# Altium integrated library TI_Logic_Flip-Flop,Latch,Register.IntLib: 2598 symbols (part 20 of 122)
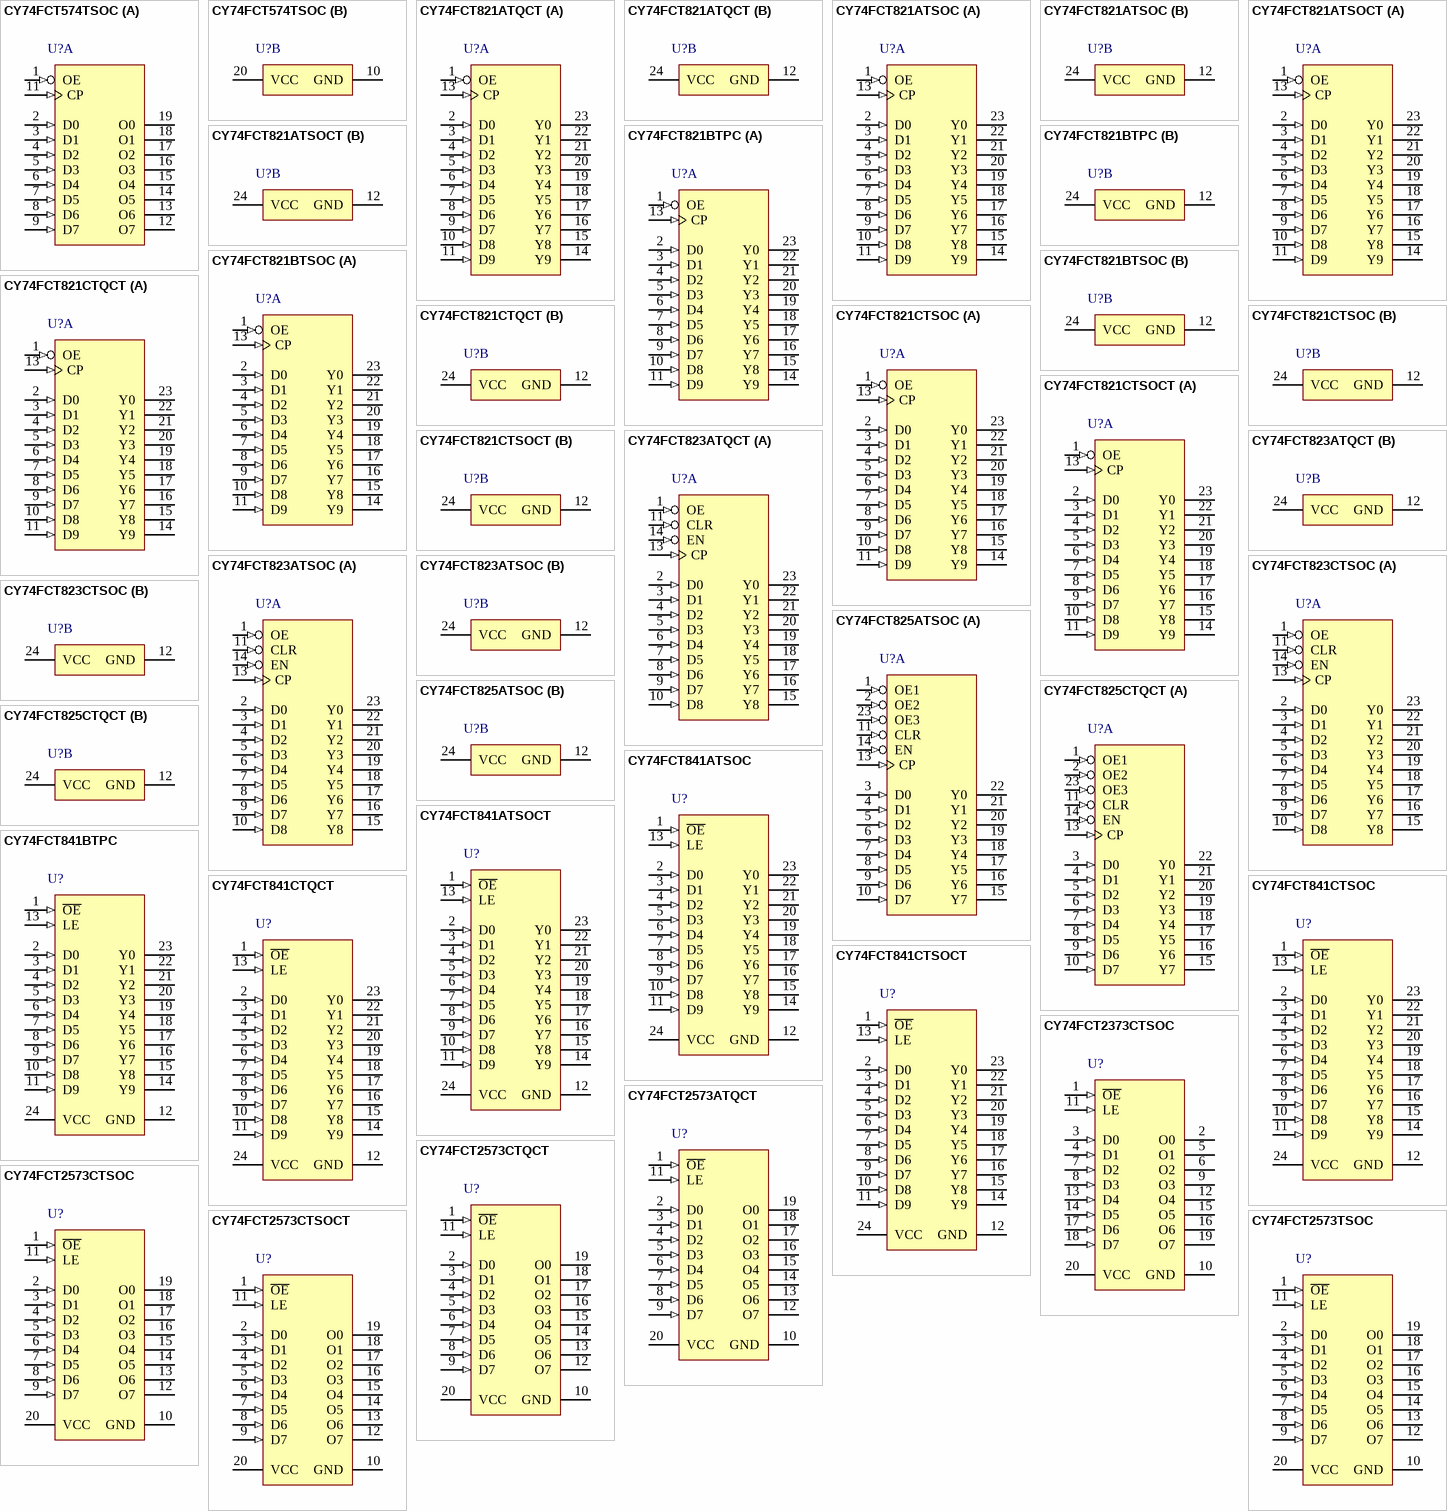
[diagram p158: symbols CY74FCT574TSOC to CY74FCT2573TSOC]

## CY74FCT2573TSOC
designator U?
Octal D-Type Transparent Latches with 3-State Outputs and Series Damping Resistors, DW0020A, TUBE; Generic Part Number: CY74FCT2573T; Manufacturer: Texas Instruments; PartNumber: CY74FCT2573TSOC; VCC(Min)(V): 4.75; VCC(Max)(V): 5.25; Output Type: CMOS; ICC @ Nom Voltage(Max)(mA): 0.2; Input Type: TTL; Bits(#): 8; F @ Nom Voltage(Max)(Mhz): 70; Rating: Catalog; Technology Family: FCT; Voltage(Nom)(V): 5; Schmitt Trigger: No; Output Drive (IOL/IOH)(Max)(mA): 12/-15; Output Logic: Non-inverted; 3-State Output: Yes; DatasheetVersion: SCCS075; PackageReference: DW0020A; Supplier 1: Digi-Key; Supplier Part Number 1: 296-33225-5-ND; Supplier 2: Mouser; Supplier Part Number 2: 595-CY74FCT2573TSOC; Operating Temperature Range(C): -40 to 85; tpd @ Nom Voltage(Max)(ns): 8; Code_JEDEC: MS-013; ComponentLink1Description: Manufacturer URL; ComponentLink1URL: http://www.ti.com/; ComponentLink2Description: Datasheet; ComponentLink2URL: http://www.ti.com/lit/ds/symlink/cy74fct2573t.pdf; ComponentLink3Description: Package Specification; ComponentLink3URL: http://www.ti.com/lit/ml/mpds173a/mpds173a.pdf
footprint DW0020A_N (SOIC, 20-Leads, Body 13x7.6mm, Pitch 1.27mm, IPC Medium Density)
footprint DW0020A_M (SOIC, 20-Leads, Body 13x7.6mm, Pitch 1.27mm, IPC Low Density)
footprint DW0020A_L (SOIC, 20-Leads, Body 13x7.6mm, Pitch 1.27mm, IPC High Density)
pins: 1 ~{OE} (in), 2 D0 (in), 3 D1 (in), 4 D2 (in), 5 D3 (in), 6 D4 (in), 7 D5 (in), 8 D6 (in), 9 D7 (in), 10 GND (power), 11 LE (in), 12 O7 (hiz), 13 O6 (hiz), 14 O5 (hiz), 15 O4 (hiz), 16 O3 (hiz), 17 O2 (hiz), 18 O1 (hiz), 19 O0 (hiz), 20 VCC (power)

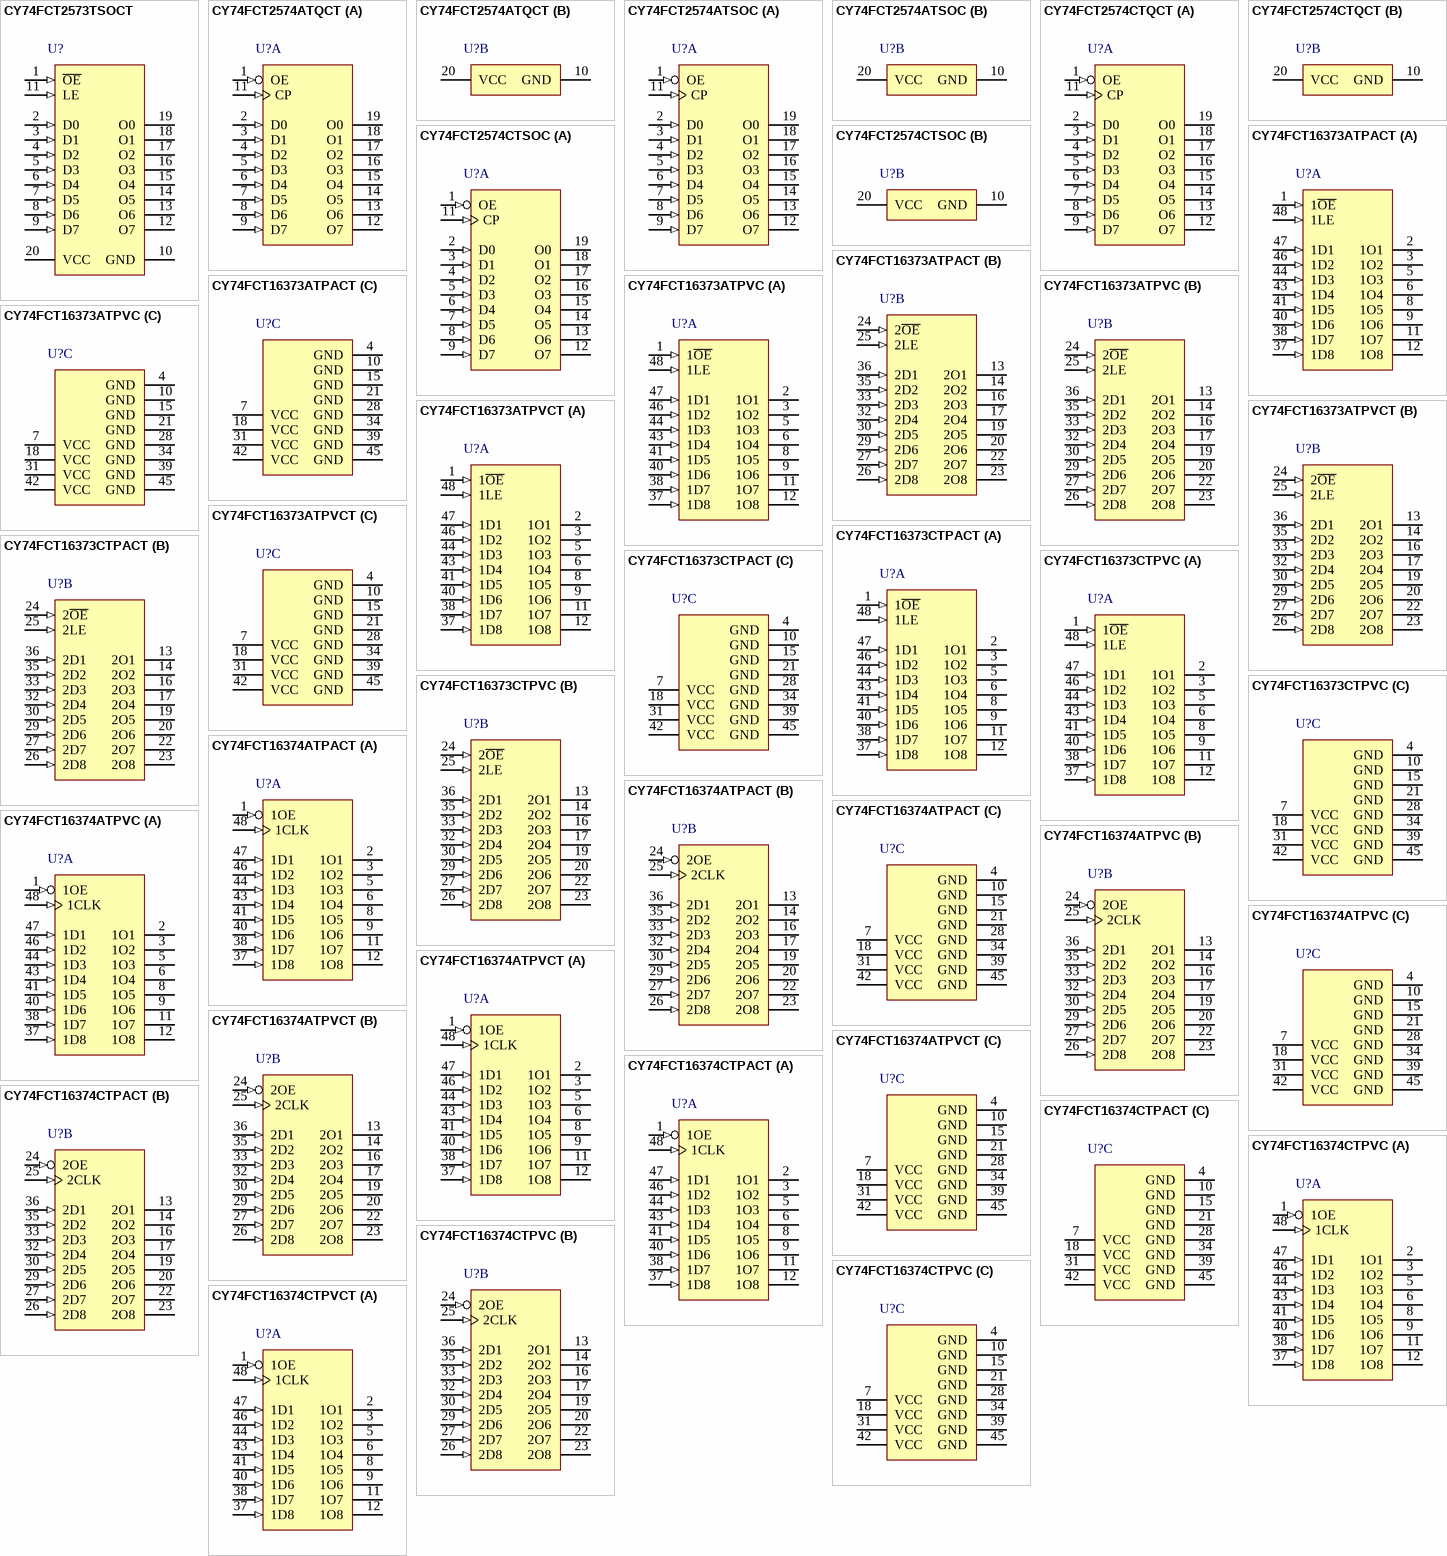
[diagram p27: symbols CY74FCT2573TSOCT to CY74FCT16374CTPVCT]

## CY74FCT2573TSOCT
designator U?
Octal D-Type Transparent Latches with 3-State Outputs and Series Damping Resistors, DW0020A, LARGE T&R; Generic Part Number: CY74FCT2573T; Manufacturer: Texas Instruments; PartNumber: CY74FCT2573TSOCT; VCC(Min)(V): 4.75; VCC(Max)(V): 5.25; Output Type: CMOS; ICC @ Nom Voltage(Max)(mA): 0.2; Input Type: TTL; Bits(#): 8; F @ Nom Voltage(Max)(Mhz): 70; Rating: Catalog; Technology Family: FCT; Voltage(Nom)(V): 5; Schmitt Trigger: No; Output Drive (IOL/IOH)(Max)(mA): 12/-15; Output Logic: Non-inverted; 3-State Output: Yes; DatasheetVersion: SCCS075; PackageReference: DW0020A; Supplier 1: Digi-Key; Supplier Part Number 1: 296-28795-2-ND; Supplier 2: Digi-Key; Supplier Part Number 2: 296-28795-1-ND; Supplier 3: Digi-Key; Supplier Part Number 3: 296-28795-6-ND; Supplier 4: Mouser; Supplier Part Number 4: 595-CY74FCT2573TSOCT; Operating Temperature Range(C): -40 to 85; tpd @ Nom Voltage(Max)(ns): 8; Code_JEDEC: MS-013; ComponentLink1Description: Manufacturer URL; ComponentLink1URL: http://www.ti.com/; ComponentLink2Description: Datasheet; ComponentLink2URL: http://www.ti.com/lit/ds/symlink/cy74fct2573t.pdf; ComponentLink3Description: Package Specification; ComponentLink3URL: http://www.ti.com/lit/ml/mpds173a/mpds173a.pdf
footprint DW0020A_N (SOIC, 20-Leads, Body 13x7.6mm, Pitch 1.27mm, IPC Medium Density)
footprint DW0020A_M (SOIC, 20-Leads, Body 13x7.6mm, Pitch 1.27mm, IPC Low Density)
footprint DW0020A_L (SOIC, 20-Leads, Body 13x7.6mm, Pitch 1.27mm, IPC High Density)
pins: 1 ~{OE} (in), 2 D0 (in), 3 D1 (in), 4 D2 (in), 5 D3 (in), 6 D4 (in), 7 D5 (in), 8 D6 (in), 9 D7 (in), 10 GND (power), 11 LE (in), 12 O7 (hiz), 13 O6 (hiz), 14 O5 (hiz), 15 O4 (hiz), 16 O3 (hiz), 17 O2 (hiz), 18 O1 (hiz), 19 O0 (hiz), 20 VCC (power)

## CY74FCT2574ATQCT
designator U?
Octal D-Type Registers with 3-State Outputs and Series Damping Resistors, DBQ0020A, LARGE T&R; Generic Part Number: CY74FCT2574T; Manufacturer: Texas Instruments; PartNumber: CY74FCT2574ATQCT; VCC(Min)(V): 4.75; VCC(Max)(V): 5.25; Output Type: CMOS; ICC @ Nom Voltage(Max)(mA): 0.2; Input Type: TTL; Bits(#): 8; F @ Nom Voltage(Max)(Mhz): 70; Rating: Catalog; Technology Family: FCT; Voltage(Nom)(V): 5; Schmitt Trigger: No; Output Drive (IOL/IOH)(Max)(mA): 12/-15; tpd @ Nom Voltage(Max)(ns): 6.5; DatasheetVersion: SCCS076; PackageReference: DBQ0020A; Supplier 1: Digi-Key; Supplier Part Number 1: 296-13635-2-ND; Supplier 2: Digi-Key; Supplier Part Number 2: 296-13635-1-ND; Supplier 3: Digi-Key; Supplier Part Number 3: 296-13635-6-ND; Supplier 4: Mouser; Supplier Part Number 4: 595-CY74FCT2574ATQCT; Operating Temperature Range(C): -40 to 85; Code_JEDEC: MO-137; ComponentLink1Description: Manufacturer URL; ComponentLink1URL: http://www.ti.com/; ComponentLink2Description: Datasheet; ComponentLink2URL: http://www.ti.com/lit/ds/symlink/cy74fct2574t.pdf; ComponentLink3Description: Package Specification; ComponentLink3URL: http://www.ti.com/lit/ml/mpds210a/mpds210a.pdf
footprint DBQ0020A_N (SOP, 20-Leads, Body 8.8x4mm, Pitch 0.635mm, IPC Medium Density)
footprint DBQ0020A_M (SOP, 20-Leads, Body 8.8x4mm, Pitch 0.635mm, IPC Low Density)
footprint DBQ0020A_L (SOP, 20-Leads, Body 8.8x4mm, Pitch 0.635mm, IPC High Density)
part A pins: 1 OE (in), 2 D0 (in), 3 D1 (in), 4 D2 (in), 5 D3 (in), 6 D4 (in), 7 D5 (in), 8 D6 (in), 9 D7 (in), 11 CP (in), 12 O7 (hiz), 13 O6 (hiz), 14 O5 (hiz), 15 O4 (hiz), 16 O3 (hiz), 17 O2 (hiz), 18 O1 (hiz), 19 O0 (hiz)
part B pins: 10 GND (power), 20 VCC (power)

## CY74FCT2574ATSOC
designator U?
Octal D-Type Registers with 3-State Outputs and Series Damping Resistors, DW0020A, TUBE; Generic Part Number: CY74FCT2574T; Manufacturer: Texas Instruments; PartNumber: CY74FCT2574ATSOC; VCC(Min)(V): 4.75; VCC(Max)(V): 5.25; Output Type: CMOS; ICC @ Nom Voltage(Max)(mA): 0.2; Input Type: TTL; Bits(#): 8; F @ Nom Voltage(Max)(Mhz): 70; Rating: Catalog; Technology Family: FCT; Voltage(Nom)(V): 5; Schmitt Trigger: No; Output Drive (IOL/IOH)(Max)(mA): 12/-15; tpd @ Nom Voltage(Max)(ns): 6.5; DatasheetVersion: SCCS076; PackageReference: DW0020A; Supplier 1: Digi-Key; Supplier Part Number 1: CY74FCT2574ATSOC-ND; Supplier 2: Farnell; Supplier Part Number 2: 1741460; Supplier 3: Mouser; Supplier Part Number 3: 595-CY74FCT2574ATSOC; Operating Temperature Range(C): -40 to 85; Code_JEDEC: MS-013; ComponentLink1Description: Manufacturer URL; ComponentLink1URL: http://www.ti.com/; ComponentLink2Description: Datasheet; ComponentLink2URL: http://www.ti.com/lit/ds/symlink/cy74fct2574t.pdf; ComponentLink3Description: Package Specification; ComponentLink3URL: http://www.ti.com/lit/ml/mpds173a/mpds173a.pdf
footprint DW0020A_N (SOIC, 20-Leads, Body 13x7.6mm, Pitch 1.27mm, IPC Medium Density)
footprint DW0020A_M (SOIC, 20-Leads, Body 13x7.6mm, Pitch 1.27mm, IPC Low Density)
footprint DW0020A_L (SOIC, 20-Leads, Body 13x7.6mm, Pitch 1.27mm, IPC High Density)
part A pins: 1 OE (in), 2 D0 (in), 3 D1 (in), 4 D2 (in), 5 D3 (in), 6 D4 (in), 7 D5 (in), 8 D6 (in), 9 D7 (in), 11 CP (in), 12 O7 (hiz), 13 O6 (hiz), 14 O5 (hiz), 15 O4 (hiz), 16 O3 (hiz), 17 O2 (hiz), 18 O1 (hiz), 19 O0 (hiz)
part B pins: 10 GND (power), 20 VCC (power)

## CY74FCT2574CTQCT
designator U?
Octal D-Type Registers with 3-State Outputs and Series Damping Resistors, DBQ0020A, LARGE T&R; Generic Part Number: CY74FCT2574T; Manufacturer: Texas Instruments; PartNumber: CY74FCT2574CTQCT; VCC(Min)(V): 4.75; VCC(Max)(V): 5.25; Output Type: CMOS; ICC @ Nom Voltage(Max)(mA): 0.2; Input Type: TTL; Bits(#): 8; F @ Nom Voltage(Max)(Mhz): 70; Rating: Catalog; Technology Family: FCT; Voltage(Nom)(V): 5; Schmitt Trigger: No; Output Drive (IOL/IOH)(Max)(mA): 12/-15; tpd @ Nom Voltage(Max)(ns): 5.2; DatasheetVersion: SCCS076; PackageReference: DBQ0020A; Supplier 1: Digi-Key; Supplier Part Number 1: CY74FCT2574CTQCT-ND; Supplier 2: Mouser; Supplier Part Number 2: 595-CY74FCT2574CTQCT; Operating Temperature Range(C): -40 to 85; Code_JEDEC: MO-137; ComponentLink1Description: Manufacturer URL; ComponentLink1URL: http://www.ti.com/; ComponentLink2Description: Datasheet; ComponentLink2URL: http://www.ti.com/lit/ds/symlink/cy74fct2574t.pdf; ComponentLink3Description: Package Specification; ComponentLink3URL: http://www.ti.com/lit/ml/mpds210a/mpds210a.pdf
footprint DBQ0020A_N (SOP, 20-Leads, Body 8.8x4mm, Pitch 0.635mm, IPC Medium Density)
footprint DBQ0020A_M (SOP, 20-Leads, Body 8.8x4mm, Pitch 0.635mm, IPC Low Density)
footprint DBQ0020A_L (SOP, 20-Leads, Body 8.8x4mm, Pitch 0.635mm, IPC High Density)
part A pins: 1 OE (in), 2 D0 (in), 3 D1 (in), 4 D2 (in), 5 D3 (in), 6 D4 (in), 7 D5 (in), 8 D6 (in), 9 D7 (in), 11 CP (in), 12 O7 (hiz), 13 O6 (hiz), 14 O5 (hiz), 15 O4 (hiz), 16 O3 (hiz), 17 O2 (hiz), 18 O1 (hiz), 19 O0 (hiz)
part B pins: 10 GND (power), 20 VCC (power)

## CY74FCT2574CTSOC
designator U?
Octal D-Type Registers with 3-State Outputs and Series Damping Resistors, DW0020A, TUBE; Generic Part Number: CY74FCT2574T; Manufacturer: Texas Instruments; PartNumber: CY74FCT2574CTSOC; VCC(Min)(V): 4.75; VCC(Max)(V): 5.25; Output Type: CMOS; ICC @ Nom Voltage(Max)(mA): 0.2; Input Type: TTL; Bits(#): 8; F @ Nom Voltage(Max)(Mhz): 70; Rating: Catalog; Technology Family: FCT; Voltage(Nom)(V): 5; Schmitt Trigger: No; Output Drive (IOL/IOH)(Max)(mA): 12/-15; tpd @ Nom Voltage(Max)(ns): 5.2; DatasheetVersion: SCCS076; PackageReference: DW0020A; Supplier 1: Digi-Key; Supplier Part Number 1: 296-33226-5-ND; Supplier 2: Farnell; Supplier Part Number 2: 1741461; Supplier 3: Mouser; Supplier Part Number 3: 595-CY74FCT2574CTSOC; Operating Temperature Range(C): -40 to 85; Code_JEDEC: MS-013; ComponentLink1Description: Manufacturer URL; ComponentLink1URL: http://www.ti.com/; ComponentLink2Description: Datasheet; ComponentLink2URL: http://www.ti.com/lit/ds/symlink/cy74fct2574t.pdf; ComponentLink3Description: Package Specification; ComponentLink3URL: http://www.ti.com/lit/ml/mpds173a/mpds173a.pdf
footprint DW0020A_N (SOIC, 20-Leads, Body 13x7.6mm, Pitch 1.27mm, IPC Medium Density)
footprint DW0020A_M (SOIC, 20-Leads, Body 13x7.6mm, Pitch 1.27mm, IPC Low Density)
footprint DW0020A_L (SOIC, 20-Leads, Body 13x7.6mm, Pitch 1.27mm, IPC High Density)
part A pins: 1 OE (in), 2 D0 (in), 3 D1 (in), 4 D2 (in), 5 D3 (in), 6 D4 (in), 7 D5 (in), 8 D6 (in), 9 D7 (in), 11 CP (in), 12 O7 (hiz), 13 O6 (hiz), 14 O5 (hiz), 15 O4 (hiz), 16 O3 (hiz), 17 O2 (hiz), 18 O1 (hiz), 19 O0 (hiz)
part B pins: 10 GND (power), 20 VCC (power)

## CY74FCT16373ATPACT
designator U?
16-Bit Transparent D-Type Latches with 3-State Outputs, DGG0048A, LARGE T&R; Generic Part Number: CY74FCT16373T; Manufacturer: Texas Instruments; PartNumber: CY74FCT16373ATPACT; VCC(Min)(V): 4.5; VCC(Max)(V): 5.5; Output Type: CMOS; ICC @ Nom Voltage(Max)(mA): 0.5; Input Type: TTL; Bits(#): 16; F @ Nom Voltage(Max)(Mhz): 70; Rating: Catalog; Technology Family: FCT; Voltage(Nom)(V): 5; Schmitt Trigger: No; Output Drive (IOL/IOH)(Max)(mA): 64/-32; tpd @ Nom Voltage(Max)(ns): 5.2; DatasheetVersion: SCCS054C; PackageReference: DGG0048A; Supplier 1: Digi-Key; Supplier Part Number 1: 296-31628-2-ND; Supplier 2: Digi-Key; Supplier Part Number 2: 296-31628-1-ND; Supplier 3: Digi-Key; Supplier Part Number 3: 296-31628-6-ND; Supplier 4: Mouser; Supplier Part Number 4: 595-74FCT16373ATPACT; Operating Temperature Range(C): -40 to 85; Code_JEDEC: MO-153; ComponentLink1Description: Manufacturer URL; ComponentLink1URL: http://www.ti.com/; ComponentLink2Description: Datasheet; ComponentLink2URL: http://www.ti.com/lit/ds/symlink/cy74fct16373t.pdf; ComponentLink3Description: Package Specification; ComponentLink3URL: http://www.ti.com/lit/ml/mtss003d/mtss003d.pdf
footprint DGG0048A_N (TSSOP, 48-Leads, Body 12.6x6.2mm, Pitch 0.5mm, IPC Medium Density)
footprint DGG0048A_M (TSSOP, 48-Leads, Body 12.6x6.2mm, Pitch 0.5mm, IPC Low Density)
footprint DGG0048A_L (TSSOP, 48-Leads, Body 12.6x6.2mm, Pitch 0.5mm, IPC High Density)
part A pins: 1 1~{OE} (in) "Output Enable Inputs (Active LOW)", 2 1O1 (hiz) "Three-State Outputs", 3 1O2 (hiz) "Three-State Outputs", 5 1O3 (hiz) "Three-State Outputs", 6 1O4 (hiz) "Three-State Outputs", 8 1O5 (hiz) "Three-State Outputs", 9 1O6 (hiz) "Three-State Outputs", 11 1O7 (hiz) "Three-State Outputs", 12 1O8 (hiz) "Three-State Outputs", 37 1D8 (in) "Data Inputs", 38 1D7 (in) "Data Inputs", 40 1D6 (in) "Data Inputs", 41 1D5 (in) "Data Inputs", 43 1D4 (in) "Data Inputs", 44 1D3 (in) "Data Inputs", 46 1D2 (in) "Data Inputs", 47 1D1 (in) "Data Inputs", 48 1LE (in) "Latch Enable Inputs (Active HIGH)"
part B pins: 13 2O1 (hiz) "Three-State Outputs", 14 2O2 (hiz) "Three-State Outputs", 16 2O3 (hiz) "Three-State Outputs", 17 2O4 (hiz) "Three-State Outputs", 19 2O5 (hiz) "Three-State Outputs", 20 2O6 (hiz) "Three-State Outputs", 22 2O7 (hiz) "Three-State Outputs", 23 2O8 (hiz) "Three-State Outputs", 24 2~{OE} (in) "Output Enable Inputs (Active LOW)", 25 2LE (in) "Latch Enable Inputs (Active HIGH)", 26 2D8 (in) "Data Inputs", 27 2D7 (in) "Data Inputs", 29 2D6 (in) "Data Inputs", 30 2D5 (in) "Data Inputs", 32 2D4 (in) "Data Inputs", 33 2D3 (in) "Data Inputs", 35 2D2 (in) "Data Inputs", 36 2D1 (in) "Data Inputs"
part C pins: 4 GND (power), 7 VCC (power), 10 GND (power), 15 GND (power), 18 VCC (power), 21 GND (power), 28 GND (power), 31 VCC (power), 34 GND (power), 39 GND (power), 42 VCC (power), 45 GND (power)

## CY74FCT16373ATPVC
designator U?
16-Bit Transparent D-Type Latches with 3-State Outputs, DL0048A, TUBE; Generic Part Number: CY74FCT16373T; Manufacturer: Texas Instruments; PartNumber: CY74FCT16373ATPVC; VCC(Min)(V): 4.5; VCC(Max)(V): 5.5; Output Type: CMOS; ICC @ Nom Voltage(Max)(mA): 0.5; Input Type: TTL; Bits(#): 16; F @ Nom Voltage(Max)(Mhz): 70; Rating: Catalog; Technology Family: FCT; Voltage(Nom)(V): 5; Schmitt Trigger: No; Output Drive (IOL/IOH)(Max)(mA): 64/-32; tpd @ Nom Voltage(Max)(ns): 5.2; DatasheetVersion: SCCS054C; PackageReference: DL0048A; Supplier 1: Digi-Key; Supplier Part Number 1: 296-33197-5-ND; Supplier 2: Mouser; Supplier Part Number 2: 595-74FCT16373ATPVC; Operating Temperature Range(C): -40 to 85; Code_JEDEC: MO-118; ComponentLink1Description: Manufacturer URL; ComponentLink1URL: http://www.ti.com/; ComponentLink2Description: Datasheet; ComponentLink2URL: http://www.ti.com/lit/ds/symlink/cy74fct16373t.pdf; ComponentLink3Description: Package Specification; ComponentLink3URL: http://www.ti.com/lit/ml/mpds490/mpds490.pdf
footprint DL0048A_N (SOP, 48-Leads, Body 7.6x16mm, Pitch 0.635mm, IPC Medium Density)
footprint DL0048A_M (SOP, 48-Leads, Body 7.6x16mm, Pitch 0.635mm, IPC Low Density)
footprint DL0048A_L (SOP, 48-Leads, Body 7.6x16mm, Pitch 0.635mm, IPC High Density)
part A pins: 1 1~{OE} (in) "Output Enable Inputs (Active LOW)", 2 1O1 (hiz) "Three-State Outputs", 3 1O2 (hiz) "Three-State Outputs", 5 1O3 (hiz) "Three-State Outputs", 6 1O4 (hiz) "Three-State Outputs", 8 1O5 (hiz) "Three-State Outputs", 9 1O6 (hiz) "Three-State Outputs", 11 1O7 (hiz) "Three-State Outputs", 12 1O8 (hiz) "Three-State Outputs", 37 1D8 (in) "Data Inputs", 38 1D7 (in) "Data Inputs", 40 1D6 (in) "Data Inputs", 41 1D5 (in) "Data Inputs", 43 1D4 (in) "Data Inputs", 44 1D3 (in) "Data Inputs", 46 1D2 (in) "Data Inputs", 47 1D1 (in) "Data Inputs", 48 1LE (in) "Latch Enable Inputs (Active HIGH)"
part B pins: 13 2O1 (hiz) "Three-State Outputs", 14 2O2 (hiz) "Three-State Outputs", 16 2O3 (hiz) "Three-State Outputs", 17 2O4 (hiz) "Three-State Outputs", 19 2O5 (hiz) "Three-State Outputs", 20 2O6 (hiz) "Three-State Outputs", 22 2O7 (hiz) "Three-State Outputs", 23 2O8 (hiz) "Three-State Outputs", 24 2~{OE} (in) "Output Enable Inputs (Active LOW)", 25 2LE (in) "Latch Enable Inputs (Active HIGH)", 26 2D8 (in) "Data Inputs", 27 2D7 (in) "Data Inputs", 29 2D6 (in) "Data Inputs", 30 2D5 (in) "Data Inputs", 32 2D4 (in) "Data Inputs", 33 2D3 (in) "Data Inputs", 35 2D2 (in) "Data Inputs", 36 2D1 (in) "Data Inputs"
part C pins: 4 GND (power), 7 VCC (power), 10 GND (power), 15 GND (power), 18 VCC (power), 21 GND (power), 28 GND (power), 31 VCC (power), 34 GND (power), 39 GND (power), 42 VCC (power), 45 GND (power)

## CY74FCT16373ATPVCT
designator U?
16-Bit Transparent D-Type Latches with 3-State Outputs, DL0048A, LARGE T&R; Generic Part Number: CY74FCT16373T; Manufacturer: Texas Instruments; PartNumber: CY74FCT16373ATPVCT; VCC(Min)(V): 4.5; VCC(Max)(V): 5.5; Output Type: CMOS; ICC @ Nom Voltage(Max)(mA): 0.5; Input Type: TTL; Bits(#): 16; F @ Nom Voltage(Max)(Mhz): 70; Rating: Catalog; Technology Family: FCT; Voltage(Nom)(V): 5; Schmitt Trigger: No; Output Drive (IOL/IOH)(Max)(mA): 64/-32; tpd @ Nom Voltage(Max)(ns): 5.2; DatasheetVersion: SCCS054C; PackageReference: DL0048A; Supplier 1: Digi-Key; Supplier Part Number 1: CY74FCT16373ATPVCT-ND; Supplier 2: Newark; Supplier Part Number 2: 74C8813; Supplier 3: Mouser; Supplier Part Number 3: 595-74FCT16373ATPVCT; Operating Temperature Range(C): -40 to 85; Code_JEDEC: MO-118; ComponentLink1Description: Manufacturer URL; ComponentLink1URL: http://www.ti.com/; ComponentLink2Description: Datasheet; ComponentLink2URL: http://www.ti.com/lit/ds/symlink/cy74fct16373t.pdf; ComponentLink3Description: Package Specification; ComponentLink3URL: http://www.ti.com/lit/ml/mpds490/mpds490.pdf
footprint DL0048A_N (SOP, 48-Leads, Body 7.6x16mm, Pitch 0.635mm, IPC Medium Density)
footprint DL0048A_M (SOP, 48-Leads, Body 7.6x16mm, Pitch 0.635mm, IPC Low Density)
footprint DL0048A_L (SOP, 48-Leads, Body 7.6x16mm, Pitch 0.635mm, IPC High Density)
part A pins: 1 1~{OE} (in) "Output Enable Inputs (Active LOW)", 2 1O1 (hiz) "Three-State Outputs", 3 1O2 (hiz) "Three-State Outputs", 5 1O3 (hiz) "Three-State Outputs", 6 1O4 (hiz) "Three-State Outputs", 8 1O5 (hiz) "Three-State Outputs", 9 1O6 (hiz) "Three-State Outputs", 11 1O7 (hiz) "Three-State Outputs", 12 1O8 (hiz) "Three-State Outputs", 37 1D8 (in) "Data Inputs", 38 1D7 (in) "Data Inputs", 40 1D6 (in) "Data Inputs", 41 1D5 (in) "Data Inputs", 43 1D4 (in) "Data Inputs", 44 1D3 (in) "Data Inputs", 46 1D2 (in) "Data Inputs", 47 1D1 (in) "Data Inputs", 48 1LE (in) "Latch Enable Inputs (Active HIGH)"
part B pins: 13 2O1 (hiz) "Three-State Outputs", 14 2O2 (hiz) "Three-State Outputs", 16 2O3 (hiz) "Three-State Outputs", 17 2O4 (hiz) "Three-State Outputs", 19 2O5 (hiz) "Three-State Outputs", 20 2O6 (hiz) "Three-State Outputs", 22 2O7 (hiz) "Three-State Outputs", 23 2O8 (hiz) "Three-State Outputs", 24 2~{OE} (in) "Output Enable Inputs (Active LOW)", 25 2LE (in) "Latch Enable Inputs (Active HIGH)", 26 2D8 (in) "Data Inputs", 27 2D7 (in) "Data Inputs", 29 2D6 (in) "Data Inputs", 30 2D5 (in) "Data Inputs", 32 2D4 (in) "Data Inputs", 33 2D3 (in) "Data Inputs", 35 2D2 (in) "Data Inputs", 36 2D1 (in) "Data Inputs"
part C pins: 4 GND (power), 7 VCC (power), 10 GND (power), 15 GND (power), 18 VCC (power), 21 GND (power), 28 GND (power), 31 VCC (power), 34 GND (power), 39 GND (power), 42 VCC (power), 45 GND (power)

## CY74FCT16373CTPACT
designator U?
16-Bit Transparent D-Type Latches with 3-State Outputs, DGG0048A, LARGE T&R; Generic Part Number: CY74FCT16373T; Manufacturer: Texas Instruments; PartNumber: CY74FCT16373CTPACT; VCC(Min)(V): 4.5; VCC(Max)(V): 5.5; Output Type: CMOS; ICC @ Nom Voltage(Max)(mA): 0.5; Input Type: TTL; Bits(#): 16; F @ Nom Voltage(Max)(Mhz): 70; Rating: Catalog; Technology Family: FCT; Voltage(Nom)(V): 5; Schmitt Trigger: No; Output Drive (IOL/IOH)(Max)(mA): 64/-32; tpd @ Nom Voltage(Max)(ns): 4.2; DatasheetVersion: SCCS054C; PackageReference: DGG0048A; Supplier 1: Digi-Key; Supplier Part Number 1: 296-13619-2-ND; Supplier 2: Digi-Key; Supplier Part Number 2: 296-13619-1-ND; Supplier 3: Digi-Key; Supplier Part Number 3: 296-13619-6-ND; Supplier 4: Newark; Supplier Part Number 4: 74C8814; Supplier 5: Mouser; Supplier Part Number 5: 595-CYFCT16373CTPACT; Operating Temperature Range(C): -40 to 85; Code_JEDEC: MO-153; ComponentLink1Description: Manufacturer URL; ComponentLink1URL: http://www.ti.com/; ComponentLink2Description: Datasheet; ComponentLink2URL: http://www.ti.com/lit/ds/symlink/cy74fct16373t.pdf; ComponentLink3Description: Package Specification; ComponentLink3URL: http://www.ti.com/lit/ml/mtss003d/mtss003d.pdf
footprint DGG0048A_N (TSSOP, 48-Leads, Body 12.6x6.2mm, Pitch 0.5mm, IPC Medium Density)
footprint DGG0048A_M (TSSOP, 48-Leads, Body 12.6x6.2mm, Pitch 0.5mm, IPC Low Density)
footprint DGG0048A_L (TSSOP, 48-Leads, Body 12.6x6.2mm, Pitch 0.5mm, IPC High Density)
part A pins: 1 1~{OE} (in) "Output Enable Inputs (Active LOW)", 2 1O1 (hiz) "Three-State Outputs", 3 1O2 (hiz) "Three-State Outputs", 5 1O3 (hiz) "Three-State Outputs", 6 1O4 (hiz) "Three-State Outputs", 8 1O5 (hiz) "Three-State Outputs", 9 1O6 (hiz) "Three-State Outputs", 11 1O7 (hiz) "Three-State Outputs", 12 1O8 (hiz) "Three-State Outputs", 37 1D8 (in) "Data Inputs", 38 1D7 (in) "Data Inputs", 40 1D6 (in) "Data Inputs", 41 1D5 (in) "Data Inputs", 43 1D4 (in) "Data Inputs", 44 1D3 (in) "Data Inputs", 46 1D2 (in) "Data Inputs", 47 1D1 (in) "Data Inputs", 48 1LE (in) "Latch Enable Inputs (Active HIGH)"
part B pins: 13 2O1 (hiz) "Three-State Outputs", 14 2O2 (hiz) "Three-State Outputs", 16 2O3 (hiz) "Three-State Outputs", 17 2O4 (hiz) "Three-State Outputs", 19 2O5 (hiz) "Three-State Outputs", 20 2O6 (hiz) "Three-State Outputs", 22 2O7 (hiz) "Three-State Outputs", 23 2O8 (hiz) "Three-State Outputs", 24 2~{OE} (in) "Output Enable Inputs (Active LOW)", 25 2LE (in) "Latch Enable Inputs (Active HIGH)", 26 2D8 (in) "Data Inputs", 27 2D7 (in) "Data Inputs", 29 2D6 (in) "Data Inputs", 30 2D5 (in) "Data Inputs", 32 2D4 (in) "Data Inputs", 33 2D3 (in) "Data Inputs", 35 2D2 (in) "Data Inputs", 36 2D1 (in) "Data Inputs"
part C pins: 4 GND (power), 7 VCC (power), 10 GND (power), 15 GND (power), 18 VCC (power), 21 GND (power), 28 GND (power), 31 VCC (power), 34 GND (power), 39 GND (power), 42 VCC (power), 45 GND (power)

## CY74FCT16373CTPVC
designator U?
16-Bit Transparent D-Type Latches with 3-State Outputs, DL0048A, TUBE; Generic Part Number: CY74FCT16373T; Manufacturer: Texas Instruments; PartNumber: CY74FCT16373CTPVC; VCC(Min)(V): 4.5; VCC(Max)(V): 5.5; Output Type: CMOS; ICC @ Nom Voltage(Max)(mA): 0.5; Input Type: TTL; Bits(#): 16; F @ Nom Voltage(Max)(Mhz): 70; Rating: Catalog; Technology Family: FCT; Voltage(Nom)(V): 5; Schmitt Trigger: No; Output Drive (IOL/IOH)(Max)(mA): 64/-32; tpd @ Nom Voltage(Max)(ns): 4.2; DatasheetVersion: SCCS054C; PackageReference: DL0048A; Supplier 1: Digi-Key; Supplier Part Number 1: 296-12687-5-ND; Supplier 2: Mouser; Supplier Part Number 2: 595-CYFCT16373CTPVC; Operating Temperature Range(C): -40 to 85; Code_JEDEC: MO-118; ComponentLink1Description: Manufacturer URL; ComponentLink1URL: http://www.ti.com/; ComponentLink2Description: Datasheet; ComponentLink2URL: http://www.ti.com/lit/ds/symlink/cy74fct16373t.pdf; ComponentLink3Description: Package Specification; ComponentLink3URL: http://www.ti.com/lit/ml/mpds490/mpds490.pdf
footprint DL0048A_N (SOP, 48-Leads, Body 7.6x16mm, Pitch 0.635mm, IPC Medium Density)
footprint DL0048A_M (SOP, 48-Leads, Body 7.6x16mm, Pitch 0.635mm, IPC Low Density)
footprint DL0048A_L (SOP, 48-Leads, Body 7.6x16mm, Pitch 0.635mm, IPC High Density)
part A pins: 1 1~{OE} (in) "Output Enable Inputs (Active LOW)", 2 1O1 (hiz) "Three-State Outputs", 3 1O2 (hiz) "Three-State Outputs", 5 1O3 (hiz) "Three-State Outputs", 6 1O4 (hiz) "Three-State Outputs", 8 1O5 (hiz) "Three-State Outputs", 9 1O6 (hiz) "Three-State Outputs", 11 1O7 (hiz) "Three-State Outputs", 12 1O8 (hiz) "Three-State Outputs", 37 1D8 (in) "Data Inputs", 38 1D7 (in) "Data Inputs", 40 1D6 (in) "Data Inputs", 41 1D5 (in) "Data Inputs", 43 1D4 (in) "Data Inputs", 44 1D3 (in) "Data Inputs", 46 1D2 (in) "Data Inputs", 47 1D1 (in) "Data Inputs", 48 1LE (in) "Latch Enable Inputs (Active HIGH)"
part B pins: 13 2O1 (hiz) "Three-State Outputs", 14 2O2 (hiz) "Three-State Outputs", 16 2O3 (hiz) "Three-State Outputs", 17 2O4 (hiz) "Three-State Outputs", 19 2O5 (hiz) "Three-State Outputs", 20 2O6 (hiz) "Three-State Outputs", 22 2O7 (hiz) "Three-State Outputs", 23 2O8 (hiz) "Three-State Outputs", 24 2~{OE} (in) "Output Enable Inputs (Active LOW)", 25 2LE (in) "Latch Enable Inputs (Active HIGH)", 26 2D8 (in) "Data Inputs", 27 2D7 (in) "Data Inputs", 29 2D6 (in) "Data Inputs", 30 2D5 (in) "Data Inputs", 32 2D4 (in) "Data Inputs", 33 2D3 (in) "Data Inputs", 35 2D2 (in) "Data Inputs", 36 2D1 (in) "Data Inputs"
part C pins: 4 GND (power), 7 VCC (power), 10 GND (power), 15 GND (power), 18 VCC (power), 21 GND (power), 28 GND (power), 31 VCC (power), 34 GND (power), 39 GND (power), 42 VCC (power), 45 GND (power)

## CY74FCT16374ATPACT
designator U?
16-Bit Edge-Triggered D-Type Flip-Flops with 3-State Output, DGG0048A, LARGE T&R; Generic Part Number: CY74FCT16374T; Manufacturer: Texas Instruments; PartNumber: CY74FCT16374ATPACT; VCC(Min)(V): 4.5; VCC(Max)(V): 5.5; Output Type: CMOS; ICC @ Nom Voltage(Max)(mA): 0.5; Input Type: TTL; Bits(#): 16; F @ Nom Voltage(Max)(Mhz): 70; Rating: Catalog; Technology Family: FCT; Voltage(Nom)(V): 5; Schmitt Trigger: No; Output Drive (IOL/IOH)(Max)(mA): 64/-32; tpd @ Nom Voltage(Max)(ns): 6.5; DatasheetVersion: SCCS055C; PackageReference: DGG0048A; Supplier 1: Digi-Key; Supplier Part Number 1: 296-28744-2-ND; Supplier 2: Digi-Key; Supplier Part Number 2: 296-28744-1-ND; Supplier 3: Digi-Key; Supplier Part Number 3: 296-28744-6-ND; Supplier 4: Mouser; Supplier Part Number 4: 595-74FCT16374ATPACT; Operating Temperature Range(C): -40 to 85; Code_JEDEC: MO-153; ComponentLink1Description: Manufacturer URL; ComponentLink1URL: http://www.ti.com/; ComponentLink2Description: Datasheet; ComponentLink2URL: http://www.ti.com/lit/ds/symlink/cy74fct16374t.pdf; ComponentLink3Description: Package Specification; ComponentLink3URL: http://www.ti.com/lit/ml/mtss003d/mtss003d.pdf
footprint DGG0048A_N (TSSOP, 48-Leads, Body 12.6x6.2mm, Pitch 0.5mm, IPC Medium Density)
footprint DGG0048A_M (TSSOP, 48-Leads, Body 12.6x6.2mm, Pitch 0.5mm, IPC Low Density)
footprint DGG0048A_L (TSSOP, 48-Leads, Body 12.6x6.2mm, Pitch 0.5mm, IPC High Density)
part A pins: 1 1OE (in) "Three-State Output Enable Inputs (Active LOW)", 2 1O1 (hiz) "Three-State Outputs", 3 1O2 (hiz) "Three-State Outputs", 5 1O3 (hiz) "Three-State Outputs", 6 1O4 (hiz) "Three-State Outputs", 8 1O5 (hiz) "Three-State Outputs", 9 1O6 (hiz) "Three-State Outputs", 11 1O7 (hiz) "Three-State Outputs", 12 1O8 (hiz) "Three-State Outputs", 37 1D8 (in) "Data Inputs", 38 1D7 (in) "Data Inputs", 40 1D6 (in) "Data Inputs", 41 1D5 (in) "Data Inputs", 43 1D4 (in) "Data Inputs", 44 1D3 (in) "Data Inputs", 46 1D2 (in) "Data Inputs", 47 1D1 (in) "Data Inputs", 48 1CLK (in) "Clock Inputs"
part B pins: 13 2O1 (hiz) "Three-State Outputs", 14 2O2 (hiz) "Three-State Outputs", 16 2O3 (hiz) "Three-State Outputs", 17 2O4 (hiz) "Three-State Outputs", 19 2O5 (hiz) "Three-State Outputs", 20 2O6 (hiz) "Three-State Outputs", 22 2O7 (hiz) "Three-State Outputs", 23 2O8 (hiz) "Three-State Outputs", 24 2OE (in) "Three-State Output Enable Inputs (Active LOW)", 25 2CLK (in) "Clock Inputs", 26 2D8 (in) "Data Inputs", 27 2D7 (in) "Data Inputs", 29 2D6 (in) "Data Inputs", 30 2D5 (in) "Data Inputs", 32 2D4 (in) "Data Inputs", 33 2D3 (in) "Data Inputs", 35 2D2 (in) "Data Inputs", 36 2D1 (in) "Data Inputs"
part C pins: 4 GND (power), 7 VCC (power), 10 GND (power), 15 GND (power), 18 VCC (power), 21 GND (power), 28 GND (power), 31 VCC (power), 34 GND (power), 39 GND (power), 42 VCC (power), 45 GND (power)

## CY74FCT16374ATPVC
designator U?
16-Bit Edge-Triggered D-Type Flip-Flops with 3-State Output, DL0048A, TUBE; Generic Part Number: CY74FCT16374T; Manufacturer: Texas Instruments; PartNumber: CY74FCT16374ATPVC; VCC(Min)(V): 4.5; VCC(Max)(V): 5.5; Output Type: CMOS; ICC @ Nom Voltage(Max)(mA): 0.5; Input Type: TTL; Bits(#): 16; F @ Nom Voltage(Max)(Mhz): 70; Rating: Catalog; Technology Family: FCT; Voltage(Nom)(V): 5; Schmitt Trigger: No; Output Drive (IOL/IOH)(Max)(mA): 64/-32; tpd @ Nom Voltage(Max)(ns): 6.5; DatasheetVersion: SCCS055C; PackageReference: DL0048A; Supplier 1: Digi-Key; Supplier Part Number 1: 296-33198-5-ND; Supplier 2: Mouser; Supplier Part Number 2: 595-CY74FCT16374ATPV; Operating Temperature Range(C): -40 to 85; Code_JEDEC: MO-118; ComponentLink1Description: Manufacturer URL; ComponentLink1URL: http://www.ti.com/; ComponentLink2Description: Datasheet; ComponentLink2URL: http://www.ti.com/lit/ds/symlink/cy74fct16374t.pdf; ComponentLink3Description: Package Specification; ComponentLink3URL: http://www.ti.com/lit/ml/mpds490/mpds490.pdf
footprint DL0048A_N (SOP, 48-Leads, Body 7.6x16mm, Pitch 0.635mm, IPC Medium Density)
footprint DL0048A_M (SOP, 48-Leads, Body 7.6x16mm, Pitch 0.635mm, IPC Low Density)
footprint DL0048A_L (SOP, 48-Leads, Body 7.6x16mm, Pitch 0.635mm, IPC High Density)
part A pins: 1 1OE (in) "Three-State Output Enable Inputs (Active LOW)", 2 1O1 (hiz) "Three-State Outputs", 3 1O2 (hiz) "Three-State Outputs", 5 1O3 (hiz) "Three-State Outputs", 6 1O4 (hiz) "Three-State Outputs", 8 1O5 (hiz) "Three-State Outputs", 9 1O6 (hiz) "Three-State Outputs", 11 1O7 (hiz) "Three-State Outputs", 12 1O8 (hiz) "Three-State Outputs", 37 1D8 (in) "Data Inputs", 38 1D7 (in) "Data Inputs", 40 1D6 (in) "Data Inputs", 41 1D5 (in) "Data Inputs", 43 1D4 (in) "Data Inputs", 44 1D3 (in) "Data Inputs", 46 1D2 (in) "Data Inputs", 47 1D1 (in) "Data Inputs", 48 1CLK (in) "Clock Inputs"
part B pins: 13 2O1 (hiz) "Three-State Outputs", 14 2O2 (hiz) "Three-State Outputs", 16 2O3 (hiz) "Three-State Outputs", 17 2O4 (hiz) "Three-State Outputs", 19 2O5 (hiz) "Three-State Outputs", 20 2O6 (hiz) "Three-State Outputs", 22 2O7 (hiz) "Three-State Outputs", 23 2O8 (hiz) "Three-State Outputs", 24 2OE (in) "Three-State Output Enable Inputs (Active LOW)", 25 2CLK (in) "Clock Inputs", 26 2D8 (in) "Data Inputs", 27 2D7 (in) "Data Inputs", 29 2D6 (in) "Data Inputs", 30 2D5 (in) "Data Inputs", 32 2D4 (in) "Data Inputs", 33 2D3 (in) "Data Inputs", 35 2D2 (in) "Data Inputs", 36 2D1 (in) "Data Inputs"
part C pins: 4 GND (power), 7 VCC (power), 10 GND (power), 15 GND (power), 18 VCC (power), 21 GND (power), 28 GND (power), 31 VCC (power), 34 GND (power), 39 GND (power), 42 VCC (power), 45 GND (power)

## CY74FCT16374ATPVCT
designator U?
16-Bit Edge-Triggered D-Type Flip-Flops with 3-State Output, DL0048A, LARGE T&R; Generic Part Number: CY74FCT16374T; Manufacturer: Texas Instruments; PartNumber: CY74FCT16374ATPVCT; VCC(Min)(V): 4.5; VCC(Max)(V): 5.5; Output Type: CMOS; ICC @ Nom Voltage(Max)(mA): 0.5; Input Type: TTL; Bits(#): 16; F @ Nom Voltage(Max)(Mhz): 70; Rating: Catalog; Technology Family: FCT; Voltage(Nom)(V): 5; Schmitt Trigger: No; Output Drive (IOL/IOH)(Max)(mA): 64/-32; tpd @ Nom Voltage(Max)(ns): 6.5; DatasheetVersion: SCCS055C; PackageReference: DL0048A; Supplier 1: Digi-Key; Supplier Part Number 1: 296-31629-2-ND; Supplier 2: Digi-Key; Supplier Part Number 2: 296-31629-1-ND; Supplier 3: Digi-Key; Supplier Part Number 3: 296-31629-6-ND; Supplier 4: Mouser; Supplier Part Number 4: 595-CY74FCT16374ATCT; Operating Temperature Range(C): -40 to 85; Code_JEDEC: MO-118; ComponentLink1Description: Manufacturer URL; ComponentLink1URL: http://www.ti.com/; ComponentLink2Description: Datasheet; ComponentLink2URL: http://www.ti.com/lit/ds/symlink/cy74fct16374t.pdf; ComponentLink3Description: Package Specification; ComponentLink3URL: http://www.ti.com/lit/ml/mpds490/mpds490.pdf
footprint DL0048A_N (SOP, 48-Leads, Body 7.6x16mm, Pitch 0.635mm, IPC Medium Density)
footprint DL0048A_M (SOP, 48-Leads, Body 7.6x16mm, Pitch 0.635mm, IPC Low Density)
footprint DL0048A_L (SOP, 48-Leads, Body 7.6x16mm, Pitch 0.635mm, IPC High Density)
part A pins: 1 1OE (in) "Three-State Output Enable Inputs (Active LOW)", 2 1O1 (hiz) "Three-State Outputs", 3 1O2 (hiz) "Three-State Outputs", 5 1O3 (hiz) "Three-State Outputs", 6 1O4 (hiz) "Three-State Outputs", 8 1O5 (hiz) "Three-State Outputs", 9 1O6 (hiz) "Three-State Outputs", 11 1O7 (hiz) "Three-State Outputs", 12 1O8 (hiz) "Three-State Outputs", 37 1D8 (in) "Data Inputs", 38 1D7 (in) "Data Inputs", 40 1D6 (in) "Data Inputs", 41 1D5 (in) "Data Inputs", 43 1D4 (in) "Data Inputs", 44 1D3 (in) "Data Inputs", 46 1D2 (in) "Data Inputs", 47 1D1 (in) "Data Inputs", 48 1CLK (in) "Clock Inputs"
part B pins: 13 2O1 (hiz) "Three-State Outputs", 14 2O2 (hiz) "Three-State Outputs", 16 2O3 (hiz) "Three-State Outputs", 17 2O4 (hiz) "Three-State Outputs", 19 2O5 (hiz) "Three-State Outputs", 20 2O6 (hiz) "Three-State Outputs", 22 2O7 (hiz) "Three-State Outputs", 23 2O8 (hiz) "Three-State Outputs", 24 2OE (in) "Three-State Output Enable Inputs (Active LOW)", 25 2CLK (in) "Clock Inputs", 26 2D8 (in) "Data Inputs", 27 2D7 (in) "Data Inputs", 29 2D6 (in) "Data Inputs", 30 2D5 (in) "Data Inputs", 32 2D4 (in) "Data Inputs", 33 2D3 (in) "Data Inputs", 35 2D2 (in) "Data Inputs", 36 2D1 (in) "Data Inputs"
part C pins: 4 GND (power), 7 VCC (power), 10 GND (power), 15 GND (power), 18 VCC (power), 21 GND (power), 28 GND (power), 31 VCC (power), 34 GND (power), 39 GND (power), 42 VCC (power), 45 GND (power)

## CY74FCT16374CTPACT
designator U?
16-Bit Edge-Triggered D-Type Flip-Flops with 3-State Output, DGG0048A, LARGE T&R; Generic Part Number: CY74FCT16374T; Manufacturer: Texas Instruments; PartNumber: CY74FCT16374CTPACT; VCC(Min)(V): 4.5; VCC(Max)(V): 5.5; Output Type: CMOS; ICC @ Nom Voltage(Max)(mA): 0.5; Input Type: TTL; Bits(#): 16; F @ Nom Voltage(Max)(Mhz): 70; Rating: Catalog; Technology Family: FCT; Voltage(Nom)(V): 5; Schmitt Trigger: No; Output Drive (IOL/IOH)(Max)(mA): 64/-32; tpd @ Nom Voltage(Max)(ns): 5.2; DatasheetVersion: SCCS055C; PackageReference: DGG0048A; Supplier 1: Digi-Key; Supplier Part Number 1: 296-12688-2-ND; Supplier 2: Digi-Key; Supplier Part Number 2: 296-12688-1-ND; Supplier 3: Digi-Key; Supplier Part Number 3: 296-12688-6-ND; Supplier 4: Mouser; Supplier Part Number 4: 595-CYFCT16374CTPACT; Operating Temperature Range(C): -40 to 85; Code_JEDEC: MO-153; ComponentLink1Description: Manufacturer URL; ComponentLink1URL: http://www.ti.com/; ComponentLink2Description: Datasheet; ComponentLink2URL: http://www.ti.com/lit/ds/symlink/cy74fct16374t.pdf; ComponentLink3Description: Package Specification; ComponentLink3URL: http://www.ti.com/lit/ml/mtss003d/mtss003d.pdf
footprint DGG0048A_N (TSSOP, 48-Leads, Body 12.6x6.2mm, Pitch 0.5mm, IPC Medium Density)
footprint DGG0048A_M (TSSOP, 48-Leads, Body 12.6x6.2mm, Pitch 0.5mm, IPC Low Density)
footprint DGG0048A_L (TSSOP, 48-Leads, Body 12.6x6.2mm, Pitch 0.5mm, IPC High Density)
part A pins: 1 1OE (in) "Three-State Output Enable Inputs (Active LOW)", 2 1O1 (hiz) "Three-State Outputs", 3 1O2 (hiz) "Three-State Outputs", 5 1O3 (hiz) "Three-State Outputs", 6 1O4 (hiz) "Three-State Outputs", 8 1O5 (hiz) "Three-State Outputs", 9 1O6 (hiz) "Three-State Outputs", 11 1O7 (hiz) "Three-State Outputs", 12 1O8 (hiz) "Three-State Outputs", 37 1D8 (in) "Data Inputs", 38 1D7 (in) "Data Inputs", 40 1D6 (in) "Data Inputs", 41 1D5 (in) "Data Inputs", 43 1D4 (in) "Data Inputs", 44 1D3 (in) "Data Inputs", 46 1D2 (in) "Data Inputs", 47 1D1 (in) "Data Inputs", 48 1CLK (in) "Clock Inputs"
part B pins: 13 2O1 (hiz) "Three-State Outputs", 14 2O2 (hiz) "Three-State Outputs", 16 2O3 (hiz) "Three-State Outputs", 17 2O4 (hiz) "Three-State Outputs", 19 2O5 (hiz) "Three-State Outputs", 20 2O6 (hiz) "Three-State Outputs", 22 2O7 (hiz) "Three-State Outputs", 23 2O8 (hiz) "Three-State Outputs", 24 2OE (in) "Three-State Output Enable Inputs (Active LOW)", 25 2CLK (in) "Clock Inputs", 26 2D8 (in) "Data Inputs", 27 2D7 (in) "Data Inputs", 29 2D6 (in) "Data Inputs", 30 2D5 (in) "Data Inputs", 32 2D4 (in) "Data Inputs", 33 2D3 (in) "Data Inputs", 35 2D2 (in) "Data Inputs", 36 2D1 (in) "Data Inputs"
part C pins: 4 GND (power), 7 VCC (power), 10 GND (power), 15 GND (power), 18 VCC (power), 21 GND (power), 28 GND (power), 31 VCC (power), 34 GND (power), 39 GND (power), 42 VCC (power), 45 GND (power)

## CY74FCT16374CTPVC
designator U?
16-Bit Edge-Triggered D-Type Flip-Flops with 3-State Output, DL0048A, TUBE; Generic Part Number: CY74FCT16374T; Manufacturer: Texas Instruments; PartNumber: CY74FCT16374CTPVC; VCC(Min)(V): 4.5; VCC(Max)(V): 5.5; Output Type: CMOS; ICC @ Nom Voltage(Max)(mA): 0.5; Input Type: TTL; Bits(#): 16; F @ Nom Voltage(Max)(Mhz): 70; Rating: Catalog; Technology Family: FCT; Voltage(Nom)(V): 5; Schmitt Trigger: No; Output Drive (IOL/IOH)(Max)(mA): 64/-32; tpd @ Nom Voltage(Max)(ns): 5.2; DatasheetVersion: SCCS055C; PackageReference: DL0048A; Supplier 1: Digi-Key; Supplier Part Number 1: 296-33199-5-ND; Supplier 2: Farnell; Supplier Part Number 2: 1741084; Supplier 3: Mouser; Supplier Part Number 3: 595-CY74FCT16374CTPV; Operating Temperature Range(C): -40 to 85; Code_JEDEC: MO-118; ComponentLink1Description: Manufacturer URL; ComponentLink1URL: http://www.ti.com/; ComponentLink2Description: Datasheet; ComponentLink2URL: http://www.ti.com/lit/ds/symlink/cy74fct16374t.pdf; ComponentLink3Description: Package Specification; ComponentLink3URL: http://www.ti.com/lit/ml/mpds490/mpds490.pdf
footprint DL0048A_N (SOP, 48-Leads, Body 7.6x16mm, Pitch 0.635mm, IPC Medium Density)
footprint DL0048A_M (SOP, 48-Leads, Body 7.6x16mm, Pitch 0.635mm, IPC Low Density)
footprint DL0048A_L (SOP, 48-Leads, Body 7.6x16mm, Pitch 0.635mm, IPC High Density)
part A pins: 1 1OE (in) "Three-State Output Enable Inputs (Active LOW)", 2 1O1 (hiz) "Three-State Outputs", 3 1O2 (hiz) "Three-State Outputs", 5 1O3 (hiz) "Three-State Outputs", 6 1O4 (hiz) "Three-State Outputs", 8 1O5 (hiz) "Three-State Outputs", 9 1O6 (hiz) "Three-State Outputs", 11 1O7 (hiz) "Three-State Outputs", 12 1O8 (hiz) "Three-State Outputs", 37 1D8 (in) "Data Inputs", 38 1D7 (in) "Data Inputs", 40 1D6 (in) "Data Inputs", 41 1D5 (in) "Data Inputs", 43 1D4 (in) "Data Inputs", 44 1D3 (in) "Data Inputs", 46 1D2 (in) "Data Inputs", 47 1D1 (in) "Data Inputs", 48 1CLK (in) "Clock Inputs"
part B pins: 13 2O1 (hiz) "Three-State Outputs", 14 2O2 (hiz) "Three-State Outputs", 16 2O3 (hiz) "Three-State Outputs", 17 2O4 (hiz) "Three-State Outputs", 19 2O5 (hiz) "Three-State Outputs", 20 2O6 (hiz) "Three-State Outputs", 22 2O7 (hiz) "Three-State Outputs", 23 2O8 (hiz) "Three-State Outputs", 24 2OE (in) "Three-State Output Enable Inputs (Active LOW)", 25 2CLK (in) "Clock Inputs", 26 2D8 (in) "Data Inputs", 27 2D7 (in) "Data Inputs", 29 2D6 (in) "Data Inputs", 30 2D5 (in) "Data Inputs", 32 2D4 (in) "Data Inputs", 33 2D3 (in) "Data Inputs", 35 2D2 (in) "Data Inputs", 36 2D1 (in) "Data Inputs"
part C pins: 4 GND (power), 7 VCC (power), 10 GND (power), 15 GND (power), 18 VCC (power), 21 GND (power), 28 GND (power), 31 VCC (power), 34 GND (power), 39 GND (power), 42 VCC (power), 45 GND (power)

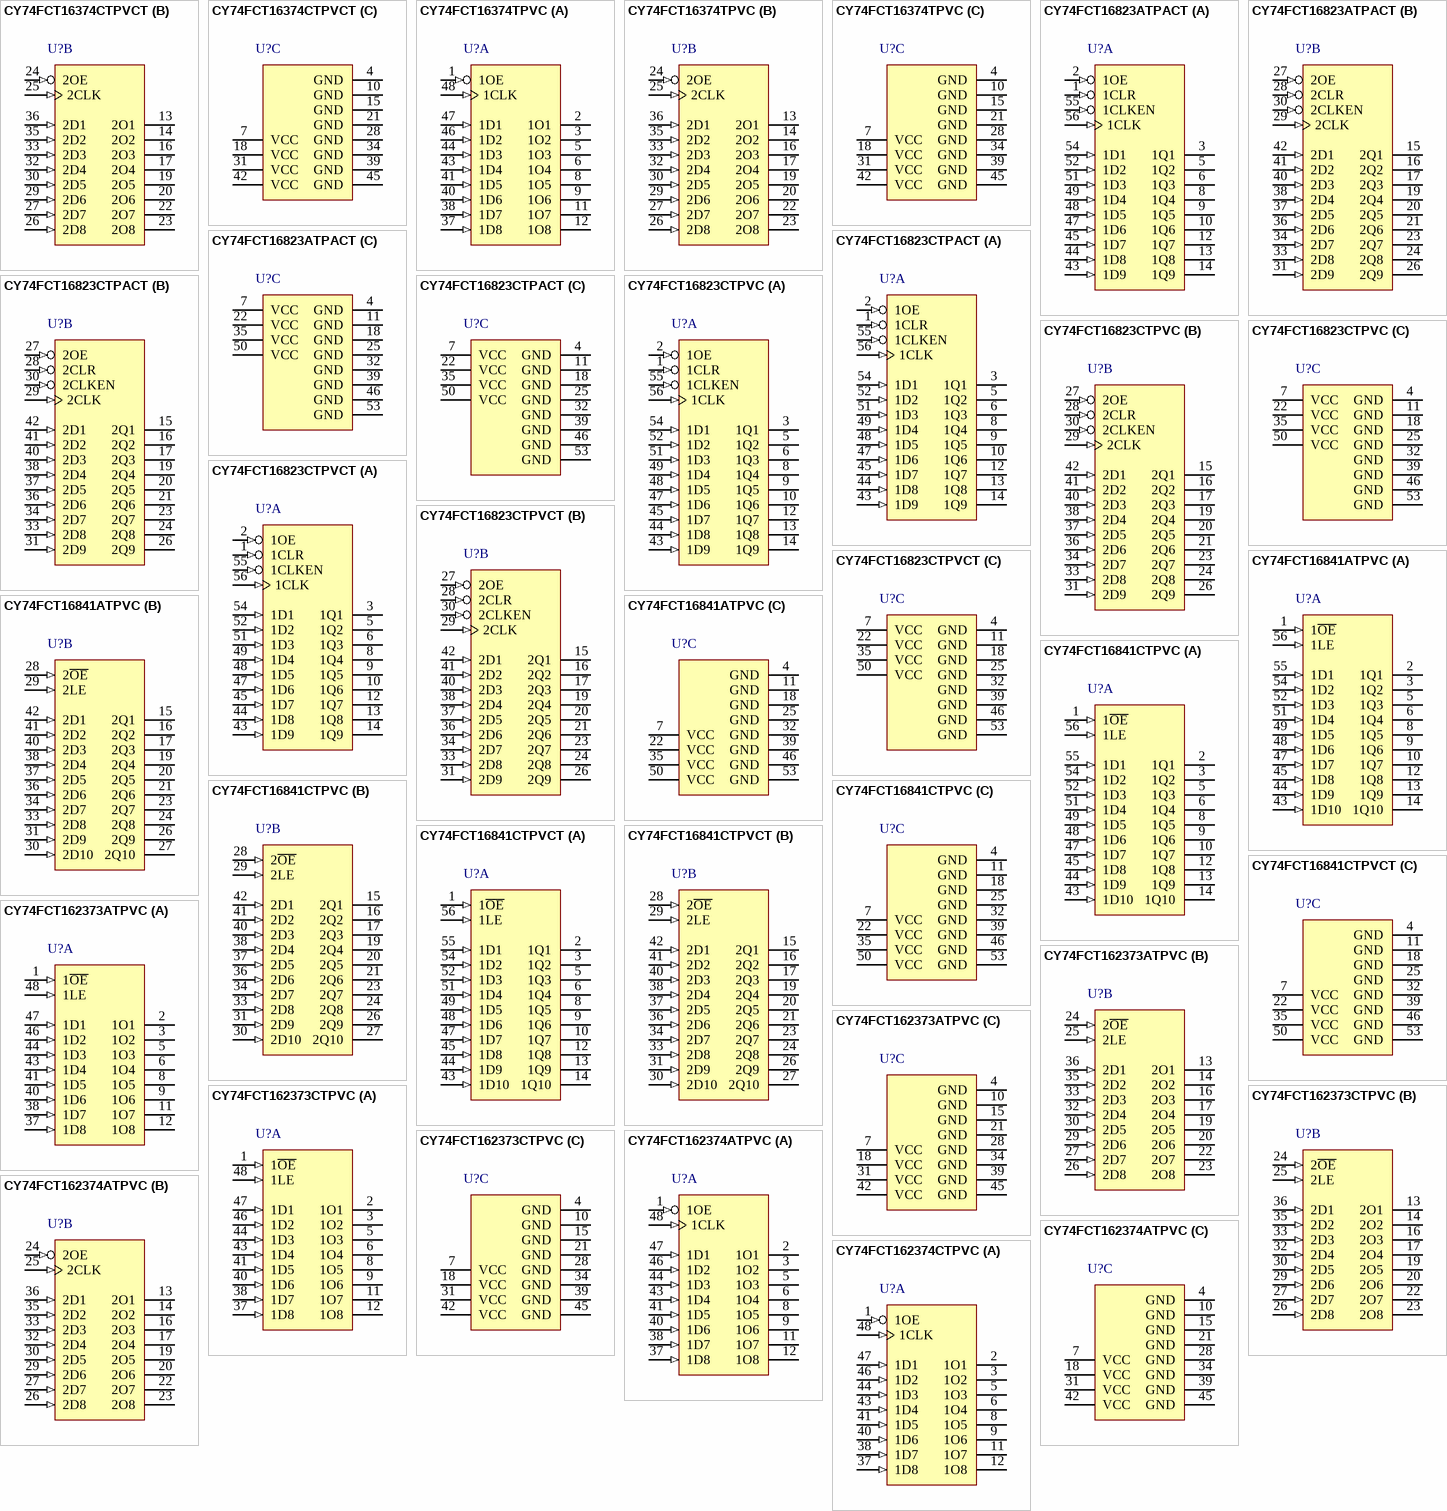
[diagram p28: symbols CY74FCT16374CTPVCT to CY74FCT162374CTPVC]

## CY74FCT16374CTPVCT
designator U?
16-Bit Edge-Triggered D-Type Flip-Flops with 3-State Output, DL0048A, LARGE T&R; Generic Part Number: CY74FCT16374T; Manufacturer: Texas Instruments; PartNumber: CY74FCT16374CTPVCT; VCC(Min)(V): 4.5; VCC(Max)(V): 5.5; Output Type: CMOS; ICC @ Nom Voltage(Max)(mA): 0.5; Input Type: TTL; Bits(#): 16; F @ Nom Voltage(Max)(Mhz): 70; Rating: Catalog; Technology Family: FCT; Voltage(Nom)(V): 5; Schmitt Trigger: No; Output Drive (IOL/IOH)(Max)(mA): 64/-32; tpd @ Nom Voltage(Max)(ns): 5.2; DatasheetVersion: SCCS055C; PackageReference: DL0048A; Supplier 1: Digi-Key; Supplier Part Number 1: CY74FCT16374CTPVCT-ND; Supplier 2: Mouser; Supplier Part Number 2: 595-CY74FCT16374CTCT; Operating Temperature Range(C): -40 to 85; Code_JEDEC: MO-118; ComponentLink1Description: Manufacturer URL; ComponentLink1URL: http://www.ti.com/; ComponentLink2Description: Datasheet; ComponentLink2URL: http://www.ti.com/lit/ds/symlink/cy74fct16374t.pdf; ComponentLink3Description: Package Specification; ComponentLink3URL: http://www.ti.com/lit/ml/mpds490/mpds490.pdf
footprint DL0048A_N (SOP, 48-Leads, Body 7.6x16mm, Pitch 0.635mm, IPC Medium Density)
footprint DL0048A_M (SOP, 48-Leads, Body 7.6x16mm, Pitch 0.635mm, IPC Low Density)
footprint DL0048A_L (SOP, 48-Leads, Body 7.6x16mm, Pitch 0.635mm, IPC High Density)
part A pins: 1 1OE (in) "Three-State Output Enable Inputs (Active LOW)", 2 1O1 (hiz) "Three-State Outputs", 3 1O2 (hiz) "Three-State Outputs", 5 1O3 (hiz) "Three-State Outputs", 6 1O4 (hiz) "Three-State Outputs", 8 1O5 (hiz) "Three-State Outputs", 9 1O6 (hiz) "Three-State Outputs", 11 1O7 (hiz) "Three-State Outputs", 12 1O8 (hiz) "Three-State Outputs", 37 1D8 (in) "Data Inputs", 38 1D7 (in) "Data Inputs", 40 1D6 (in) "Data Inputs", 41 1D5 (in) "Data Inputs", 43 1D4 (in) "Data Inputs", 44 1D3 (in) "Data Inputs", 46 1D2 (in) "Data Inputs", 47 1D1 (in) "Data Inputs", 48 1CLK (in) "Clock Inputs"
part B pins: 13 2O1 (hiz) "Three-State Outputs", 14 2O2 (hiz) "Three-State Outputs", 16 2O3 (hiz) "Three-State Outputs", 17 2O4 (hiz) "Three-State Outputs", 19 2O5 (hiz) "Three-State Outputs", 20 2O6 (hiz) "Three-State Outputs", 22 2O7 (hiz) "Three-State Outputs", 23 2O8 (hiz) "Three-State Outputs", 24 2OE (in) "Three-State Output Enable Inputs (Active LOW)", 25 2CLK (in) "Clock Inputs", 26 2D8 (in) "Data Inputs", 27 2D7 (in) "Data Inputs", 29 2D6 (in) "Data Inputs", 30 2D5 (in) "Data Inputs", 32 2D4 (in) "Data Inputs", 33 2D3 (in) "Data Inputs", 35 2D2 (in) "Data Inputs", 36 2D1 (in) "Data Inputs"
part C pins: 4 GND (power), 7 VCC (power), 10 GND (power), 15 GND (power), 18 VCC (power), 21 GND (power), 28 GND (power), 31 VCC (power), 34 GND (power), 39 GND (power), 42 VCC (power), 45 GND (power)

## CY74FCT16374TPVC
designator U?
16-Bit Edge-Triggered D-Type Flip-Flops with 3-State Output, DL0048A, TUBE; Generic Part Number: CY74FCT16374T; Manufacturer: Texas Instruments; PartNumber: CY74FCT16374TPVC; VCC(Min)(V): 4.5; VCC(Max)(V): 5.5; Output Type: CMOS; ICC @ Nom Voltage(Max)(mA): 0.5; Input Type: TTL; Bits(#): 16; F @ Nom Voltage(Max)(Mhz): 70; Rating: Catalog; Technology Family: FCT; Voltage(Nom)(V): 5; Schmitt Trigger: No; Output Drive (IOL/IOH)(Max)(mA): 64/-32; Output Logic: Non-inverted; 3-State Output: Yes; tpd @ Nom Voltage(Max)(ns): 10; DatasheetVersion: SCCS055C; PackageReference: DL0048A; Supplier 1: Digi-Key; Supplier Part Number 1: 296-12273-5-ND; Supplier 2: Mouser; Supplier Part Number 2: 595-CY74FCT16374TPVC; Operating Temperature Range(C): -40 to 85; Code_JEDEC: MO-118; ComponentLink1Description: Manufacturer URL; ComponentLink1URL: http://www.ti.com/; ComponentLink2Description: Datasheet; ComponentLink2URL: http://www.ti.com/lit/ds/symlink/cy74fct16374t.pdf; ComponentLink3Description: Package Specification; ComponentLink3URL: http://www.ti.com/lit/ml/mpds490/mpds490.pdf
footprint DL0048A_N (SOP, 48-Leads, Body 7.6x16mm, Pitch 0.635mm, IPC Medium Density)
footprint DL0048A_M (SOP, 48-Leads, Body 7.6x16mm, Pitch 0.635mm, IPC Low Density)
footprint DL0048A_L (SOP, 48-Leads, Body 7.6x16mm, Pitch 0.635mm, IPC High Density)
part A pins: 1 1OE (in) "Three-State Output Enable Inputs (Active LOW)", 2 1O1 (hiz) "Three-State Outputs", 3 1O2 (hiz) "Three-State Outputs", 5 1O3 (hiz) "Three-State Outputs", 6 1O4 (hiz) "Three-State Outputs", 8 1O5 (hiz) "Three-State Outputs", 9 1O6 (hiz) "Three-State Outputs", 11 1O7 (hiz) "Three-State Outputs", 12 1O8 (hiz) "Three-State Outputs", 37 1D8 (in) "Data Inputs", 38 1D7 (in) "Data Inputs", 40 1D6 (in) "Data Inputs", 41 1D5 (in) "Data Inputs", 43 1D4 (in) "Data Inputs", 44 1D3 (in) "Data Inputs", 46 1D2 (in) "Data Inputs", 47 1D1 (in) "Data Inputs", 48 1CLK (in) "Clock Inputs"
part B pins: 13 2O1 (hiz) "Three-State Outputs", 14 2O2 (hiz) "Three-State Outputs", 16 2O3 (hiz) "Three-State Outputs", 17 2O4 (hiz) "Three-State Outputs", 19 2O5 (hiz) "Three-State Outputs", 20 2O6 (hiz) "Three-State Outputs", 22 2O7 (hiz) "Three-State Outputs", 23 2O8 (hiz) "Three-State Outputs", 24 2OE (in) "Three-State Output Enable Inputs (Active LOW)", 25 2CLK (in) "Clock Inputs", 26 2D8 (in) "Data Inputs", 27 2D7 (in) "Data Inputs", 29 2D6 (in) "Data Inputs", 30 2D5 (in) "Data Inputs", 32 2D4 (in) "Data Inputs", 33 2D3 (in) "Data Inputs", 35 2D2 (in) "Data Inputs", 36 2D1 (in) "Data Inputs"
part C pins: 4 GND (power), 7 VCC (power), 10 GND (power), 15 GND (power), 18 VCC (power), 21 GND (power), 28 GND (power), 31 VCC (power), 34 GND (power), 39 GND (power), 42 VCC (power), 45 GND (power)

## CY74FCT16823ATPACT
designator U?
18-Bit D-Type Flip-Flops with 3-State Outputs, DGG0056A, LARGE T&R; Generic Part Number: CY74FCT16823T; Manufacturer: Texas Instruments; PartNumber: CY74FCT16823ATPACT; VCC(Min)(V): 4.5; VCC(Max)(V): 5.5; Output Type: CMOS; ICC @ Nom Voltage(Max)(mA): 0.5; Input Type: TTL; Bits(#): 18; F @ Nom Voltage(Max)(Mhz): 70; Rating: Catalog; Technology Family: FCT; Voltage(Nom)(V): 5; Schmitt Trigger: No; Output Drive (IOL/IOH)(Max)(mA): 64/-32; tpd @ Nom Voltage(Max)(ns): 20; DatasheetVersion: SCCS062B; PackageReference: DGG0056A; Supplier 1: Digi-Key; Supplier Part Number 1: 296-31630-2-ND; Supplier 2: Digi-Key; Supplier Part Number 2: 296-31630-1-ND; Supplier 3: Digi-Key; Supplier Part Number 3: 296-31630-6-ND; Supplier 4: Mouser; Supplier Part Number 4: 595-74FCT16823ATPACT; Operating Temperature Range(C): -40 to 85; Code_JEDEC: MO-153; ComponentLink1Description: Manufacturer URL; ComponentLink1URL: http://www.ti.com/; ComponentLink2Description: Datasheet; ComponentLink2URL: http://www.ti.com/lit/ds/symlink/cy74fct16823t.pdf; ComponentLink3Description: Package Specification; ComponentLink3URL: http://www.ti.com/lit/ml/mtss003d/mtss003d.pdf
footprint DGG0056A_N (TSSOP, 56-Leads, Body 14.1x6.2mm, Pitch 0.5mm, IPC Medium Density)
footprint DGG0056A_M (TSSOP, 56-Leads, Body 14.1x6.2mm, Pitch 0.5mm, IPC Low Density)
footprint DGG0056A_L (TSSOP, 56-Leads, Body 14.1x6.2mm, Pitch 0.5mm, IPC High Density)
part A pins: 1 1CLR (in) "Asynchronous Clear Inputs (Active LOW)", 2 1OE (in) "Output Enable Inputs (Active LOW)", 3 1Q1 (hiz) "Three-State Outputs", 5 1Q2 (hiz) "Three-State Outputs", 6 1Q3 (hiz) "Three-State Outputs", 8 1Q4 (hiz) "Three-State Outputs", 9 1Q5 (hiz) "Three-State Outputs", 10 1Q6 (hiz) "Three-State Outputs", 12 1Q7 (hiz) "Three-State Outputs", 13 1Q8 (hiz) "Three-State Outputs", 14 1Q9 (hiz) "Three-State Outputs", 43 1D9 (in) "Data Inputs", 44 1D8 (in) "Data Inputs", 45 1D7 (in) "Data Inputs", 47 1D6 (in) "Data Inputs", 48 1D5 (in) "Data Inputs", 49 1D4 (in) "Data Inputs", 51 1D3 (in) "Data Inputs", 52 1D2 (in) "Data Inputs", 54 1D1 (in) "Data Inputs", 55 1CLKEN (in) "Clock Enable Inputs (Active LOW)", 56 1CLK (in) "Clock Inputs"
part B pins: 15 2Q1 (hiz) "Three-State Outputs", 16 2Q2 (hiz) "Three-State Outputs", 17 2Q3 (hiz) "Three-State Outputs", 19 2Q4 (hiz) "Three-State Outputs", 20 2Q5 (hiz) "Three-State Outputs", 21 2Q6 (hiz) "Three-State Outputs", 23 2Q7 (hiz) "Three-State Outputs", 24 2Q8 (hiz) "Three-State Outputs", 26 2Q9 (hiz) "Three-State Outputs", 27 2OE (in) "Output Enable Inputs (Active LOW)", 28 2CLR (in) "Asynchronous Clear Inputs (Active LOW)", 29 2CLK (in) "Clock Inputs", 30 2CLKEN (in) "Clock Enable Inputs (Active LOW)", 31 2D9 (in) "Data Inputs", 33 2D8 (in) "Data Inputs", 34 2D7 (in) "Data Inputs", 36 2D6 (in) "Data Inputs", 37 2D5 (in) "Data Inputs", 38 2D4 (in) "Data Inputs", 40 2D3 (in) "Data Inputs", 41 2D2 (in) "Data Inputs", 42 2D1 (in) "Data Inputs"
part C pins: 4 GND (power), 7 VCC (power), 11 GND (power), 18 GND (power), 22 VCC (power), 25 GND (power), 32 GND (power), 35 VCC (power), 39 GND (power), 46 GND (power), 50 VCC (power), 53 GND (power)